# Altium integrated library Passive.IntLib: 138 symbols
Pins are listed as number, name and electrical type; pins without a type are passive.

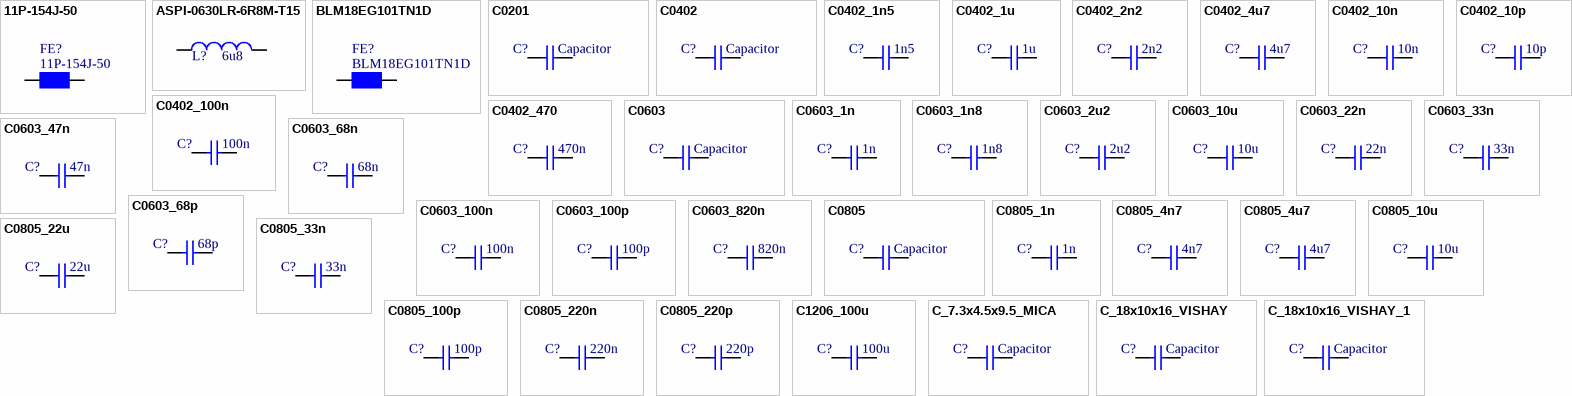
[diagram p0: symbols 11P-154J-50 to C_18x10x16_VISHAY_1]

## 11P-154J-50
designator FE?
RF CHOKE 150mH 5%
footprint RF_10mm
pins: 1, 2

## ASPI-0630LR-6R8M-T15
designator L?, comment 6u8
6u8 6A 54mOhm; Code Arduino: XE_L0002
footprint 7.2x6.65 (7.2x6.65x3mm Inductor)
pins: 1, 2

## BLM18EG101TN1D
designator FE?
FERRITE SMD 0603  100OHM 2A
footprint L0603
pins: 1, 2

## C0201
designator C?, comment Capacitor
CAP CHIP 0201; Code Arduino: *; Manufacturer: *; Part Number: *
footprint C0201 (Footprint not found)
pins: 1, 2

## C0402
designator C?, comment Capacitor
CAP CHIP 0402; Code Arduino: *; Manufacturer: *; Part Number: *
footprint C0402 (Footprint not found)
pins: 1, 2

## C0402_1n5
designator C?, comment 1n5
CAP CHIP 0402 1n5 50V; Part Number: C0402C152K5REC7411; Manufacturer: KEMET; Code Arduino: XE_C0022; Voltage: 50V
footprint C0402 (Footprint not found)
pins: 1, 2

## C0402_1u
designator C?, comment 1u
CAP CHIP 0402 1u 50V; Part Number: GRM155R61H105KE05D; Manufacturer: Murata Electronics; Code Arduino: XE_C0049; Voltage: 50V
footprint C0402 (Footprint not found)
pins: 1, 2

## C0402_2n2
designator C?, comment 2n2
CAP CHIP 0402 2n2 50V; Part Number: KGM05AR71H222KH; Manufacturer: KYOCERA AVX; Code Arduino: XE_C0044; Voltage: 50V
footprint C0402 (Footprint not found)
pins: 1, 2

## C0402_4u7
designator C?, comment 4u7
CAP CHIP 0402 4u7; Code Arduino: 0833
footprint C0402 (Footprint not found)
pins: 1, 2

## C0402_10n
designator C?, comment 10n
CAP CHIP 0402 10n; Code Arduino: 0165
footprint C0402 (Footprint not found)
pins: 1, 2

## C0402_10p
designator C?, comment 10p
CAP CHIP 0402 10p; Code Arduino: 3382
footprint C0402 (Footprint not found)
pins: 1, 2

## C0402_100n
designator C?, comment 100n
CAP CHIP 0402 100n; Code Arduino: 0132
footprint C0402 (Footprint not found)
pins: 1, 2

## C0402_470
designator C?, comment 470n
CAP CHIP 0402 470n; Code Arduino: 0133
footprint C0402 (Footprint not found)
pins: 1, 2

## C0603
designator C?, comment Capacitor
CAP CHIP 0603; Code: *; Manufacturer: *; Part Number: *
footprint C0603 (Footprint not found)
pins: 1, 2

## C0603_1n
designator C?, comment 1n
CAP CHIP 0603 1n; Manufacturer: Murata; Part Number: GCM188R71H102KA37J; Code Arduino: XE_C0015
footprint C0603 (Footprint not found)
pins: 1, 2

## C0603_1n8
designator C?, comment 1n8
CAP CHIP 0603 1n8; Code Arduino: XE_C0017
footprint C0603 (Footprint not found)
pins: 1, 2

## C0603_2u2
designator C?, comment 2u2
CAP CHIP 0603 2u2; Manufacturer: Tayo Yuden; Part Number: EMK107ABJ225KA8T; Code Arduino: XE_C0016
footprint C0603 (Footprint not found)
pins: 1, 2

## C0603_10u
designator C?, comment 10u
CAP CHIP 0603 10u; Part Number: 06033D106MAT2A; Manufacturer: Kyocera AVX; Code Arduino: 2213
footprint C0603 (Footprint not found)
pins: 1, 2

## C0603_22n
designator C?, comment 22n
CAP CHIP 0603 22n; Manufacturer: Tayo Yuden; Part Number: HMK107B7223KAHT; Code Arduino: XE_C0014
footprint C0603 (Footprint not found)
pins: 1, 2

## C0603_33n
designator C?, comment 33n
CAP CHIP 0603 33n; Manufacturer: Tayo Yuden; Part Number: EMK107B7333MA-T; Code Arduino: XE_C0013
footprint C0603 (Footprint not found)
pins: 1, 2

## C0603_47n
designator C?, comment 47n
CAP CHIP 0603 47n; Manufacturer: KEMET; Part Number: C0603C473K5RACTU; Code Arduino: XE_C0012
footprint C0603 (Footprint not found)
pins: 1, 2

## C0603_68n
designator C?, comment 68n
CAP CHIP 0603 68n; Manufacturer: Tayo Yuden; Part Number: EMK107B7683KA-T; Code Arduino: XE_C0011
footprint C0603 (Footprint not found)
pins: 1, 2

## C0603_68p
designator C?, comment 68p
CAP CHIP 0603 68p; Manufacturer: Yageo; Part Number: CC0603JRNPO0BN680; Code Arduino: XE_C0018
footprint C0603 (Footprint not found)
pins: 1, 2

## C0603_100n
designator C?, comment 100n
CAP CHIP 0603 100n; Code Arduino: XE_C0032
footprint C0603 (Footprint not found)
pins: 1, 2

## C0603_100p
designator C?, comment 100p
CAP CHIP 0603 100p; Manufacturer: Kyocera; Part Number: 0603YA101JAT2A; Code Arduino: XE_C0047
footprint C0603 (Footprint not found)
pins: 1, 2

## C0603_820n
designator C?, comment 820n
CAP CHIP 0603 820n; Code Arduino: XE_C0019
footprint C0603
pins: 1, 2

## C0805
designator C?, comment Capacitor
CAP CHIP 0805; Code Arduino: *; Manufacturer: *; Part Number: *
footprint C0805
pins: 1, 2

## C0805_1n
designator C?, comment 1n
CAP CHIP 0805 1n; Code Arduino: XE_C0026
footprint C0805
pins: 1, 2

## C0805_4n7
designator C?, comment 4n7
CAP CHIP 0805 4n7; Code Arduino: 0689
footprint C0805
pins: 1, 2

## C0805_4u7
designator C?, comment 4u7
CAP CHIP 0805 4u7; Code Arduino: XE_C0042
footprint C0805
pins: 1, 2

## C0805_10u
designator C?, comment 10u
CAP CHIP 0805 10u; Code Arduino: XE_C0007
footprint C0805
pins: 1, 2

## C0805_22u
designator C?, comment 22u
CAP CHIP 0805 22u; Code Arduino: 2233
footprint C0805
pins: 1, 2

## C0805_33n
designator C?, comment 33n
CAP CHIP 0805 33n; Code Arduino: XE_C0033
footprint C0805
pins: 1, 2

## C0805_100p
designator C?, comment 100p
CAP CHIP 0805 100p; Code Arduino: XE_C0040
footprint C0805
pins: 1, 2

## C0805_220n
designator C?, comment 220n
CAP CHIP 0805 220n; Code Arduino: XE_C0010
footprint C0805
pins: 1, 2

## C0805_220p
designator C?, comment 220p
CAP CHIP 0805 220p; Code Arduino: XE_C0039
footprint C0805
pins: 1, 2

## C1206_100u
designator C?, comment 100u
100u 1206 6V3; Code Arduino: XE_C0039
footprint C1206
pins: 1, 2

## C_7.3x4.5x9.5_MICA
designator C?, comment Capacitor
Code Arduino: *
footprint C_7.3x4.5x9.5_MICA (C_7.3x4.5x9.5_VISHAY)
pins: 1, 2

## C_18x10x16_VISHAY
designator C?, comment Capacitor
Code Arduino: *
footprint C_18x10x16_VISHAY (Footprint not found)
pins: 1, 2

## C_18x10x16_VISHAY_1
designator C?, comment Capacitor
Code Arduino: *
footprint C_18x10x16_VISHAY (CPOL_18x10x16_VISHAY)
pins: 1, 2

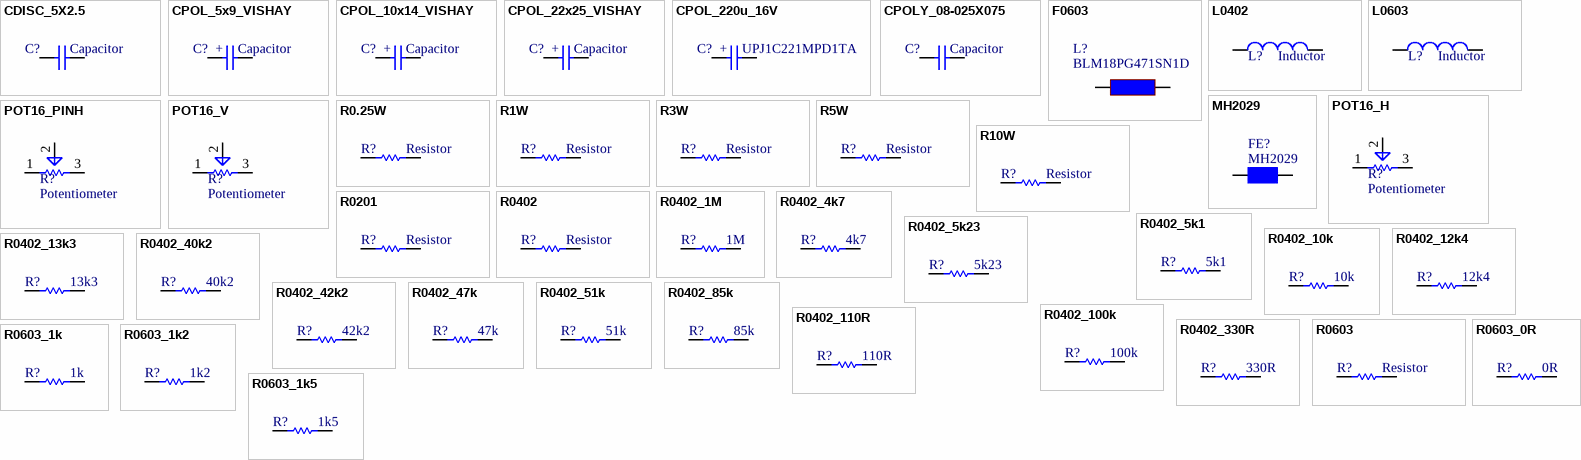
[diagram p1: symbols CDISC_5X2.5 to R0603_1k5]

## CDISC_5X2.5
designator C?, comment Capacitor
Code Arduino: *
footprint CDISC_5X2.5 (Footprint not found)
pins: 1, 2

## CPOL_5x9_VISHAY
designator C?, comment Capacitor
Code Arduino: *
footprint CPOL_5x9_VISHAY
pins: 1, 2
text: +

## CPOL_10x14_VISHAY
designator C?, comment Capacitor
Code Arduino: *
footprint CPOL_10x14_VISHAY
pins: 1, 2
text: +

## CPOL_22x25_VISHAY
designator C?, comment Capacitor
Code Arduino: *
footprint CPOL_22x25_VISHAY (Footprint not found)
pins: 1, 2
text: +

## CPOL_220u_16V
designator C?, comment UPJ1C221MPD1TA
CPOL 220u 16V; Code Arduino: *
footprint CPOL_3.5x8_NICHICON (C220u_16V)
pins: 1, 2
text: +

## CPOLY_08-025X075
designator C?, comment Capacitor
Code Arduino: *
footprint CPOLY_08-025X075 (Footprint not found)
pins: 1, 2

## F0603
designator L?, comment BLM18PG471SN1D
470 OHM Ferrite; Code Arduino: 2200; Manufacturer: *; Part Number: *
footprint L0603 (Footprint not found)
pins: 1, 2

## L0402
designator L?, comment Inductor
Code Arduino: *; Manufacturer: *; Part Number: *
footprint L0402 (Footprint not found)
pins: 1, 2

## L0603
designator L?, comment Inductor
Code Arduino: *; Manufacturer: *; Part Number: *
footprint L0603 (Footprint not found)
pins: 1, 2

## MH2029
designator FE?
FERRITE SMD 0805 30OHM 2A; Code Arduino: *
footprint R0805
pins: 1, 2

## POT16_H
designator R?, comment Potentiometer
Code Arduino: *
footprint POT16_H
pins: 1, 2, 3

## POT16_PINH
designator R?, comment Potentiometer
Code Arduino: *
footprint PINH-3
pins: 1, 2, 3

## POT16_V
designator R?, comment Potentiometer
Code Arduino: *
footprint POT16_V
pins: 1, 2, 3

## R0.25W
designator R?, comment Resistor
RES THT 1/4W; Code Arduino: *
footprint R0.25W
pins: 1, 2

## R1W
designator R?, comment Resistor
RES THT 1W; Code Arduino: *
footprint R1W (Footprint not found)
pins: 1, 2

## R3W
designator R?, comment Resistor
RES THT 3W; Code Arduino: *
footprint R3W (Footprint not found)
pins: 1, 2

## R5W
designator R?, comment Resistor
RES THT 5W; Code Arduino: *
footprint R5W (Footprint not found)
pins: 1, 2

## R10W
designator R?, comment Resistor
RES THT 10W; Code Arduino: *
footprint R10W (Footprint not found)
pins: 1, 2

## R0201
designator R?, comment Resistor
RES CHIP 0201; Code Arduino: *; Manufacturer: *; Part Number: *
footprint R0201 (Footprint not found)
pins: 1, 2

## R0402
designator R?, comment Resistor
RES CHIP 0402; Code Arduino: *; Manufacturer: *; Part Number: *
footprint R0402 (040R2)
pins: 1, 2

## R0402_1M
designator R?, comment 1M
RES CHIP 0402 1M; Code Arduino: 2196
footprint R0402 (040R2)
pins: 1, 2

## R0402_4k7
designator R?, comment 4k7
RES CHIP 0402 4k7; Code Arduino: 2196
footprint R0402 (040R2)
pins: 1, 2

## R0402_5k1
designator R?, comment 5k1
RES CHIP 0402 5k1; Code Arduino: R0210
footprint R0402 (040R2)
pins: 1, 2

## R0402_5k23
designator R?, comment 5k23
RES CHIP 0402 5k23; Part Number: RT0402BRE075K23L; Manufacturer: Yageo; Code Arduino: XE_R0072
footprint R0402 (040R2)
pins: 1, 2

## R0402_10k
designator R?, comment 10k
RES CHIP 0402 10k; Code Arduino: XE_R0064
footprint R0402 (040R2)
pins: 1, 2

## R0402_12k4
designator R?, comment 12k4
RES CHIP 0402 12k4; Code Arduino: 2297
footprint R0402 (040R2)
pins: 1, 2

## R0402_13k3
designator R?, comment 13k3
RES CHIP 0402 13k3; Part Number: CR0402-FX-1332GLF; Manufacturer: Bourns; Code Arduino: XE_R0074
footprint R0402 (040R2)
pins: 1, 2

## R0402_40k2
designator R?, comment 40k2
RES CHIP 0402 40k2; Part Number: RT0402DRD0740K2L; Manufacturer: Yageo; Code Arduino: XE_R0073
footprint R0402 (040R2)
pins: 1, 2

## R0402_42k2
designator R?, comment 42k2
RES CHIP 0402 42k2; Code Arduino: XE_R0061
footprint R0402 (040R2)
pins: 1, 2

## R0402_47k
designator R?, comment 47k
RES CHIP 0402 47k; Code Arduino: R0076
footprint R0402 (040R2)
pins: 1, 2

## R0402_51k
designator R?, comment 51k
RES CHIP 0402 51k; Code Arduino: XE_R0063
footprint R0402 (040R2)
pins: 1, 2

## R0402_85k
designator R?, comment 85k
RES CHIP 0402 85k; Code Arduino: XE_R0064
footprint R0402 (040R2)
pins: 1, 2

## R0402_100k
designator R?, comment 100k
RES CHIP 0402 100k; Code Arduino: 0134
footprint R0402 (040R2)
pins: 1, 2

## R0402_110R
designator R?, comment 110R
RES CHIP 0402 110R; Code Arduino: XE_R0060
footprint R0402 (040R2)
pins: 1, 2

## R0402_330R
designator R?, comment 330R
RES CHIP 0402 330R; Code Arduino: 2229
footprint R0402 (040R2)
pins: 1, 2

## R0603
designator R?, comment Resistor
RES CHIP 0603; Code Arduino: *; Manufacturer: *; Part Number: *
footprint R0603 (Footprint not found)
pins: 1, 2

## R0603_0R
designator R?, comment 0R
RES CHIP 0603 0R; Manufacturer: Yageo; Part Number: AC0603FR-070RL; Code Arduino: 0233
footprint R0603
pins: 1, 2

## R0603_1k
designator R?, comment 1k
RES CHIP 0603 1k; Manufacturer: Yageo; Part Number: RC0603FR-071KL; Code Arduino: XE_R0027
footprint R0603
pins: 1, 2

## R0603_1k2
designator R?, comment 1k2
RES CHIP 0603 1k2; Manufacturer: Yageo; Part Number: AC0603FR-131K2L; Code Arduino: XE_R0045
footprint R0603
pins: 1, 2

## R0603_1k5
designator R?, comment 1k5
RES CHIP 0603 1k5; Manufacturer: Yageo; Part Number: RC0603FR-071K5L; Code Arduino: XE_R0044
footprint R0603
pins: 1, 2

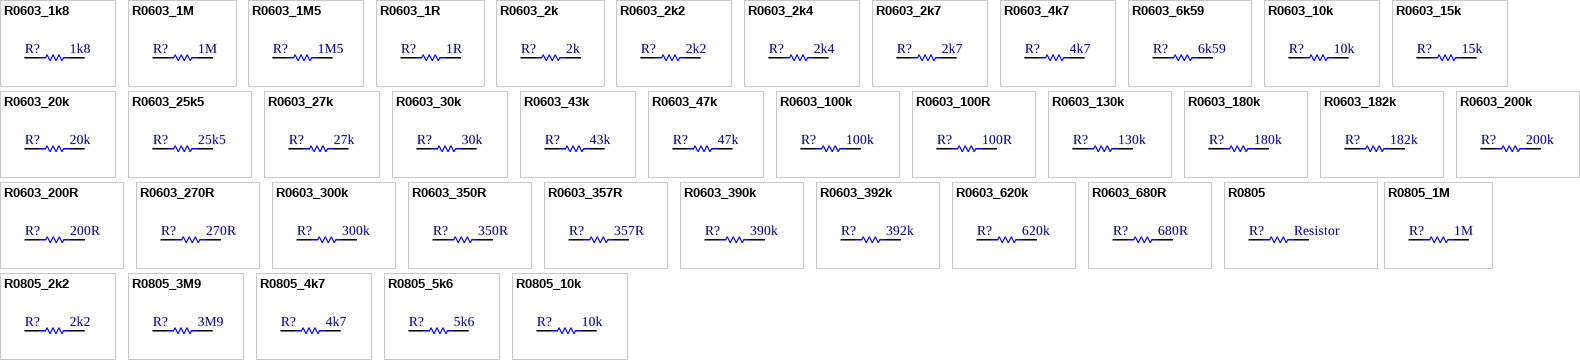
[diagram p2: symbols R0603_1k8 to R0805_10k]

## R0603_1k8
designator R?, comment 1k8
RES CHIP 0603 1k8; Manufacturer: Yageo; Part Number: RC0603JR-071K8L; Code Arduino: XE_R0018
footprint R0603
pins: 1, 2

## R0603_1M
designator R?, comment 1M
RES CHIP 0603 1M; Part Number: CR0603-FX-1004ELF; Manufacturer: Bourns; Code Arduino: XE_R0026
footprint R0603
pins: 1, 2

## R0603_1M5
designator R?, comment 1M5
RES CHIP 0603 1M5; Code Arduino: XE_R0017
footprint R0603
pins: 1, 2

## R0603_1R
designator R?, comment 1R
RES CHIP 0603 1R; Code Arduino: XE_R0050
footprint R0603
pins: 1, 2

## R0603_2k
designator R?, comment 2k
RES CHIP 0603 2k; Part Number: RC0603FR-072KL; Manufacturer: Yageo; Code Arduino: XE_R0030
footprint R0603
pins: 1, 2

## R0603_2k2
designator R?, comment 2k2
RES CHIP 0603 2k2; Code Arduino: XE_R0022
footprint R0603
pins: 1, 2

## R0603_2k4
designator R?, comment 2k4
RES CHIP 0603 2k4; Manufacturer: Yageo; Part Number: AC0603FR-072K4L; Code Arduino: XE_R0043
footprint R0603
pins: 1, 2

## R0603_2k7
designator R?, comment 2k7
RES CHIP 0603  2k7; Code Arduino: XE_R0031
footprint R0603
pins: 1, 2

## R0603_4k7
designator R?, comment 4k7
RES CHIP 0603 4k7; Code Arduino: XE_R0065
footprint R0603
pins: 1, 2

## R0603_6k59
designator R?, comment 6k59
RES CHIP 0603 6k59; Code Arduino: XE_R0058
footprint R0603
pins: 1, 2

## R0603_10k
designator R?, comment 10k
RES CHIP 0603 10k; Manufacturer: SEI Stackpole; Part Number: RMEF0603FT10K0; Code Arduino: 0028
footprint R0603
pins: 1, 2

## R0603_15k
designator R?, comment 15k
RES CHIP 0603 15k; Code Arduino: XE_R0051
footprint R0603
pins: 1, 2

## R0603_20k
designator R?, comment 20k
RES CHIP 0603 20k; Manufacturer: Vishay; Part Number: CRCW0603820KFKEAHP; Code Arduino: XE_R0078
footprint R0603
pins: 1, 2

## R0603_25k5
designator R?, comment 25k5
RES CHIP 0603 25k5; Code Arduino: XE_R0019
footprint R0603
pins: 1, 2

## R0603_27k
designator R?, comment 27k
RES CHIP 0603 27k; Code Arduino: XE_R0021
footprint R0603
pins: 1, 2

## R0603_30k
designator R?, comment 30k
RES CHIP 0603 30k; Code Arduino: XE_R0029
footprint R0603
pins: 1, 2

## R0603_43k
designator R?, comment 43k
RES CHIP 0603 43k; Code Arduino: XE_R0053
footprint R0603
pins: 1, 2

## R0603_47k
designator R?, comment 47k
RES CHIP 0603 47k; Manufacturer: Bourns; Part Number: CR0603-FX-4702ELF; Code Arduino: XE_R0075
footprint R0603
pins: 1, 2

## R0603_100k
designator R?, comment 100k
RES CHIP 0603 100k; Manufacturer: Panasonic; Part Number: ERJ-3EKF1003V; Code Arduino: 0026
footprint R0603
pins: 1, 2

## R0603_100R
designator R?, comment 100R
RES CHIP 0603 100R; Code Arduino: XE_R0047
footprint R0603
pins: 1, 2

## R0603_130k
designator R?, comment 130k
RES CHIP 0603 130k; Code Arduino: XE_R0054
footprint R0603
pins: 1, 2

## R0603_180k
designator R?, comment 180k
RES CHIP 0603 180k; Code Arduino: XE_R0055
footprint R0603
pins: 1, 2

## R0603_182k
designator R?, comment 182k
RES CHIP 0603 182k; Code Arduino: XE_R0016
footprint R0603
pins: 1, 2

## R0603_200k
designator R?, comment 200k
RES CHIP 0603 200k; Manufacturer: Vishay; Part Number: CRCW0603200KFKEA; Code Arduino: XE_R0077
footprint R0603
pins: 1, 2

## R0603_200R
designator R?, comment 200R
RES CHIP 0603 200R; Code Arduino: XE_R0046
footprint R0603
pins: 1, 2

## R0603_270R
designator R?, comment 270R
RES CHIP 0603 270R; Code Arduino: XE_R0020
footprint R0603
pins: 1, 2

## R0603_300k
designator R?, comment 300k
RES CHIP 0603 300k; Manufacturer: Bourns; Part Number: CR0603-FX-3003EL; Code Arduino: XE_R0079
footprint R0603
pins: 1, 2

## R0603_350R
designator R?, comment 350R
RES CHIP 0603 350R; Code Arduino: XE_R0059
footprint R0603
pins: 1, 2

## R0603_357R
designator R?, comment 357R
RES CHIP 0603 357R; Code Arduino: XE_R0033
footprint R0603
pins: 1, 2

## R0603_390k
designator R?, comment 390k
RES CHIP 0603 390k; Code Arduino: XE_R0032
footprint R0603
pins: 1, 2

## R0603_392k
designator R?, comment 392k
RES CHIP 0603 392k; Code Arduino: XE_R0034
footprint R0603
pins: 1, 2

## R0603_620k
designator R?, comment 620k
RES CHIP 0603 620k; Code Arduino: XE_R0076
footprint R0603
pins: 1, 2

## R0603_680R
designator R?, comment 680R
RES CHIP 0603 680R; Code Arduino: XE_R0035
footprint R0603
pins: 1, 2

## R0805
designator R?, comment Resistor
RES CHIP 0805; Code Arduino: *; Manufacturer: *; Part Number: *
footprint R0805 (Footprint not found)
pins: 1, 2

## R0805_1M
designator R?, comment 1M
RES CHIP 0805 1M; Code Arduino: XE_R0002
footprint R0805
pins: 1, 2

## R0805_2k2
designator R?, comment 2k2
RES CHIP 0805 2k2; Code Arduino: XE_R0008
footprint R0805
pins: 1, 2

## R0805_3M9
designator R?, comment 3M9
RES CHIP 0805 3M9; Code Arduino: XE_R0003
footprint R0805
pins: 1, 2

## R0805_4k7
designator R?, comment 4k7
RES CHIP 0805 4k7; Code Arduino: XE_R0005
footprint R0805
pins: 1, 2

## R0805_5k6
designator R?, comment 5k6
RES CHIP 0805 5k6; Code Arduino: XE_R0057
footprint R0805
pins: 1, 2

## R0805_10k
designator R?, comment 10k
RES CHIP 0805 10k; Code Arduino: XE_R0001
footprint R0805
pins: 1, 2

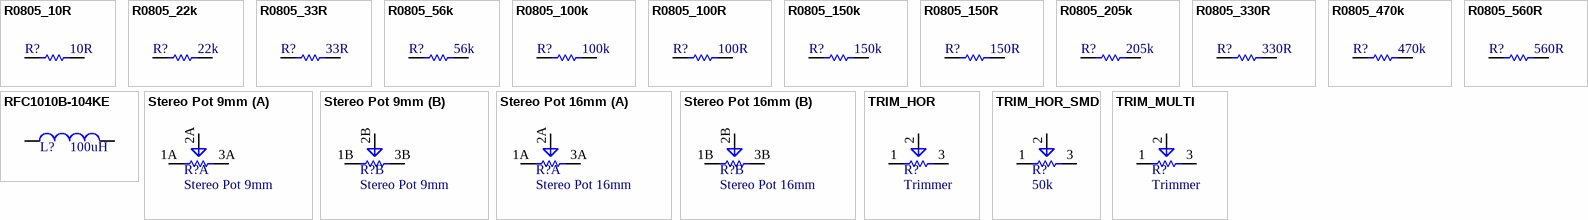
[diagram p3: symbols R0805_10R to TRIM_MULTI]

## R0805_10R
designator R?, comment 10R
RES CHIP 0805 10R; Code Arduino: XE_R0014
footprint R0805
pins: 1, 2

## R0805_22k
designator R?, comment 22k
RES CHIP 0805 22k; Code Arduino: XE_R0015
footprint R0805
pins: 1, 2

## R0805_33R
designator R?, comment 33R
RES CHIP 0805 33R; Code Arduino: XE_R0012
footprint R0805
pins: 1, 2

## R0805_56k
designator R?, comment 56k
RES CHIP 0805 56k; Code Arduino: XE_R0007
footprint R0805
pins: 1, 2

## R0805_100k
designator R?, comment 100k
RES CHIP 0805 100k; Code Arduino: XE_R0056
footprint R0805
pins: 1, 2

## R0805_100R
designator R?, comment 100R
RES CHIP 0805 100R; Code Arduino: XE_R0009
footprint R0805
pins: 1, 2

## R0805_150k
designator R?, comment 150k
RES CHIP 0805 150k; Code Arduino: XE_R0006
footprint R0805
pins: 1, 2

## R0805_150R
designator R?, comment 150R
RES CHIP 0805 150R; Code Arduino: XE_R0013
footprint R0805
pins: 1, 2

## R0805_205k
designator R?, comment 205k
RES CHIP 0805 205k; Code Arduino: XE_R0062
footprint R0805
pins: 1, 2

## R0805_330R
designator R?, comment 330R
RES CHIP 0805 330R; Code Arduino: XE_R0010
footprint R0805
pins: 1, 2

## R0805_470k
designator R?, comment 470k
RES CHIP 0805 470k; Code Arduino: XE_R0004
footprint R0805
pins: 1, 2

## R0805_560R
designator R?, comment 560R
RES CHIP 0805 560R; Code Arduino: XE_R0011
footprint R0805
pins: 1, 2

## RFC1010B-104KE
designator L?, comment 100uH
100uH 2.15A 150mR; Code Arduino: *
footprint RFC1010B-104KE
pins: 1, 2

## Stereo Pot 9mm
designator R?
Code Arduino: *
footprint PTD902 (Stere Pot 9mm)
part A pins: 1A, 2A, 3A
part B pins: 1B, 2B, 3B

## Stereo Pot 16mm
designator R?
Code Arduino: *
footprint POT16_H_STEREO
part A pins: 1A, 2A, 3A
part B pins: 1B, 2B, 3B

## TRIM_HOR
designator R?, comment Trimmer
Horizontal Trimmer; Code Arduino: *
footprint TRIM_HOR
pins: 1, 2, 3

## TRIM_HOR_SMD
designator R?, comment 50k
Horizontal Trimmer 50k; Manufacturer: Amphenol; Part Number: N6S25T0C-503-3030; Code Arduino: XE_R0038
footprint TRIM_HOR_SMD (N6S25T0C-503-3030)
pins: 1, 2, 3

## TRIM_MULTI
designator R?, comment Trimmer
Multiturn Trimmer Vertical; Code Arduino: *
footprint TRIM_MULTI
pins: 1, 2, 3